# EAGLE library part A2500R24A00GM (library circuit_tree)
IC
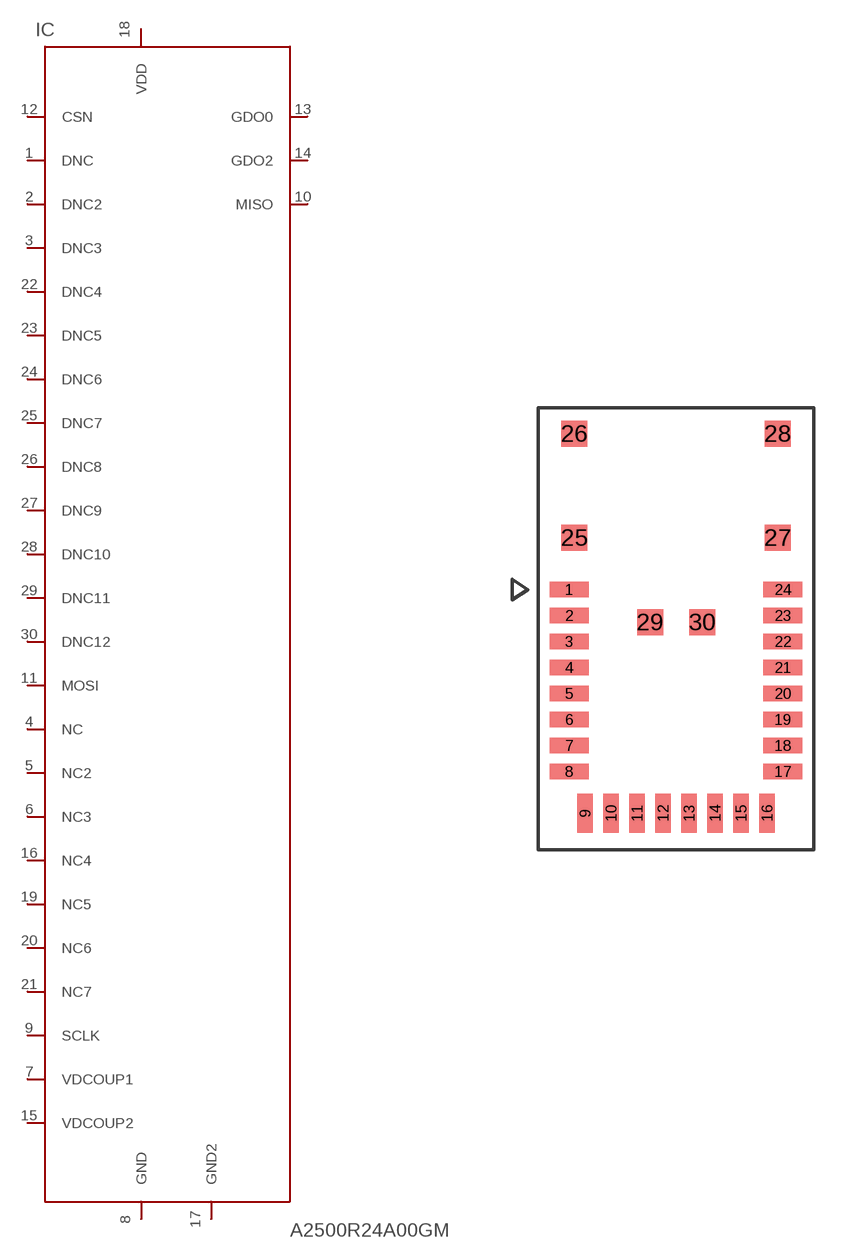
[diagram p3: symbol with the pads of A2500R24A00GM; footprint A2500R24A00GM]

Designator prefix IC

## A2500R24A00GM  [A2500R24A00GM]
1  DNC  pas
2  DNC2  pas
3  DNC3  pas
4  NC  pas
5  NC2  pas
6  NC3  pas
7  VDCOUP1  pas
8  GND  pas
9  SCLK  pas
10  MISO  pas
11  MOSI  pas
12  CSN  pas
13  GDO0  pas
14  GDO2  pas
15  VDCOUP2  pas
16  NC4  pas
17  GND2  pas
18  VDD  pas
19  NC5  pas
20  NC6  pas
21  NC7  pas
22  DNC4  pas
23  DNC5  pas
24  DNC6  pas
25  DNC7  pas
26  DNC8  pas
27  DNC9  pas
28  DNC10  pas
29  DNC11  pas
30  DNC12  pas

## Footprint A2500R24A00GM (pad centres in mm)
smd 1.5 x 0.61: 1 -3,7; 2 -3,6; 3 -3,5; 4 -3,4; 5 -3,3; 6 -3,2; 7 -3,1; 8 -3,0; 17 5.22,0; 18 5.22,1; 19 5.22,2; 20 5.22,3; 21 5.22,4; 22 5.22,5; 23 5.22,6; 24 5.22,7
smd 0.61 x 1.5: 9 -2.39,-1.6; 10 -1.39,-1.6; 11 -0.39,-1.6; 12 0.61,-1.6; 13 1.61,-1.6; 14 2.61,-1.6; 15 3.61,-1.6; 16 4.61,-1.6
smd 1 x 1: 25 -2.8,9; 26 -2.8,13; 27 5.02,9; 28 5.02,13; 29 0.11,5.75; 30 2.11,5.75